# Altium schematic symbol library Display_Character.SchLib: 128 symbols (part 1 of 2)
Pins are listed as number, name and electrical type; pins without a type are passive.

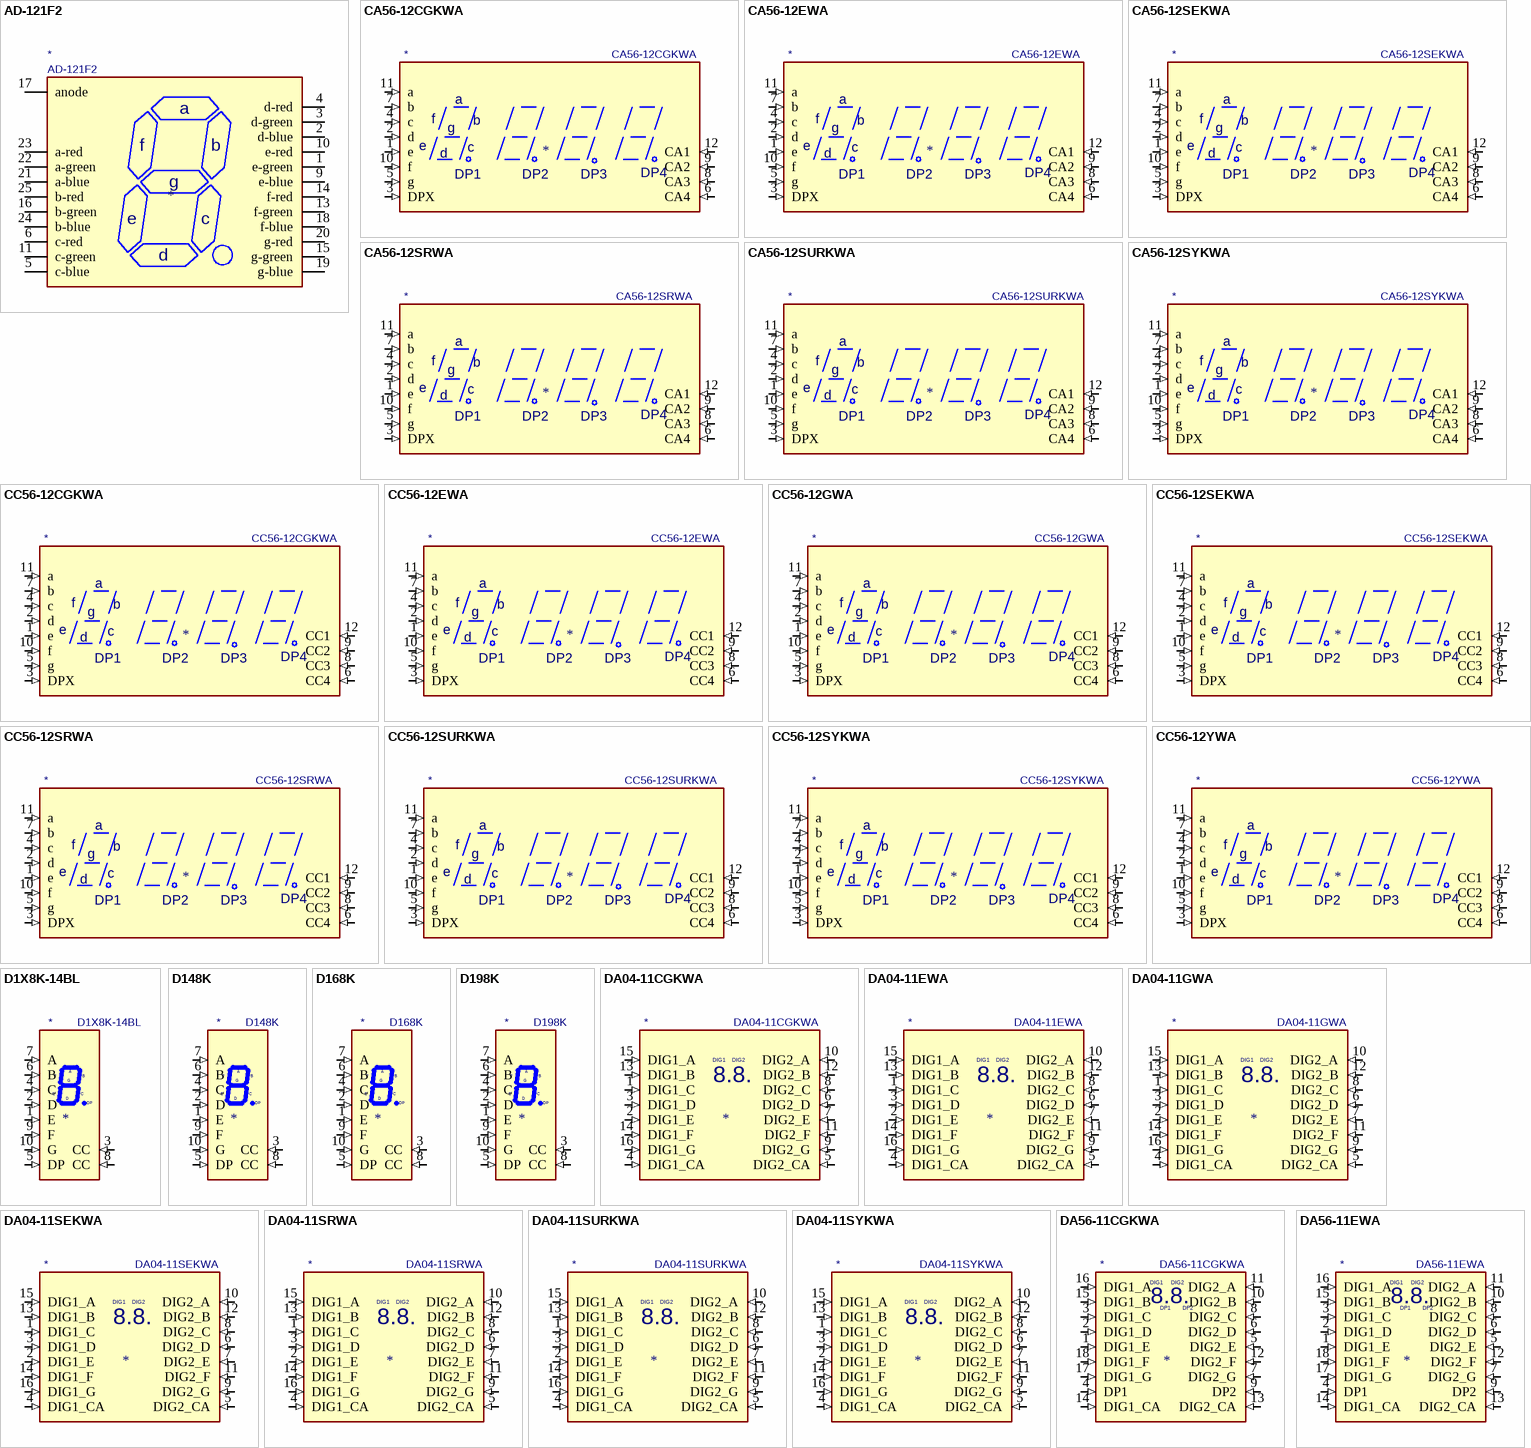
[diagram p0: symbols AD-121F2 to DA56-11EWA]

## AD-121F2
designator *  value AD-121F2
ki_keywords: display RGB LED digit 7-segment; ki_description: Single Digit 7-segment RGB LED Display, 1-inch digit height, common anode; ki_fp_filters: AD*121F2*; Footprint: Display_7Segment:AD-121F2; Supplier: http://usasyck.com/products/AD-121F2_cat_e.pdf
footprint AD-121F2
pins: 1 e-green, 2 d-blue, 3 d-green, 4 d-red, 5 c-blue, 6 c-red, 9 e-blue, 10 e-red, 11 c-green, 13 f-green, 14 f-red, 15 g-green, 16 b-green, 17 anode, 18 f-blue, 19 g-blue, 20 g-red, 21 a-blue, 22 a-green, 23 a-red, 24 b-blue, 25 b-red
text: a; f; b; g; e; c; d

## CA56-12CGKWA
designator *  value CA56-12CGKWA
ki_keywords: display LED; ki_description: 4 digit 7 segment Green LED, common anode; ki_fp_filters: *CA56*12CGKWA*; Footprint: Display_7Segment:CA56-12CGKWA; Supplier: http://www.kingbright.com/attachments/file/psearch/000/00/00/CA56-12CGKWA(Ver.9A).pdf
footprint CA56-12CGKWA
pins: 1 e (in), 2 d (in), 3 DPX (in), 4 c (in), 5 g (in), 6 CA4 (in), 7 b (in), 8 CA3 (in), 9 CA2 (in), 10 f (in), 11 a (in), 12 CA1 (in)
text: DP1; DP2; DP3; DP4

## CA56-12EWA
designator *  value CA56-12EWA
ki_keywords: display LED 7-segment; ki_description: 4 digit 7 segment high efficiency red LED, common anode; ki_fp_filters: *CA56*12EWA*; Footprint: Display_7Segment:CA56-12EWA; Supplier: http://www.kingbrightusa.com/images/catalog/SPEC/CA56-12EWA.pdf
footprint CA56-12EWA
pins: 1 e (in), 2 d (in), 3 DPX (in), 4 c (in), 5 g (in), 6 CA4 (in), 7 b (in), 8 CA3 (in), 9 CA2 (in), 10 f (in), 11 a (in), 12 CA1 (in)
text: DP1; DP2; DP3; DP4

## CA56-12SEKWA
designator *  value CA56-12SEKWA
ki_keywords: display LED 7-segment; ki_description: 4 digit 7 segment super bright orange LED, common anode; ki_fp_filters: *CA56*12SEKWA*; Footprint: Display_7Segment:CA56-12SEKWA; Supplier: http://www.kingbright.com/attachments/file/psearch/000/00/00/CA56-12SEKWA(Ver.7A).pdf
footprint CA56-12SEKWA
pins: 1 e (in), 2 d (in), 3 DPX (in), 4 c (in), 5 g (in), 6 CA4 (in), 7 b (in), 8 CA3 (in), 9 CA2 (in), 10 f (in), 11 a (in), 12 CA1 (in)
text: DP1; DP2; DP3; DP4

## CA56-12SRWA
designator *  value CA56-12SRWA
ki_keywords: display LED 7-segment; ki_description: 4 digit 7 segment super bright red LED, common anode; ki_fp_filters: *CA56*12SRWA*; Footprint: Display_7Segment:CA56-12SRWA; Supplier: http://www.kingbrightusa.com/images/catalog/SPEC/CA56-12SRWA.pdf
footprint CA56-12SRWA
pins: 1 e (in), 2 d (in), 3 DPX (in), 4 c (in), 5 g (in), 6 CA4 (in), 7 b (in), 8 CA3 (in), 9 CA2 (in), 10 f (in), 11 a (in), 12 CA1 (in)
text: DP1; DP2; DP3; DP4

## CA56-12SURKWA
designator *  value CA56-12SURKWA
ki_keywords: display LED 7-segment; ki_description: 4 digit 7 segment hyper red LED, common anode; ki_fp_filters: *CA56*12SURKWA*; Footprint: Display_7Segment:CA56-12SURKWA; Supplier: http://www.kingbright.com/attachments/file/psearch/000/00/00/CA56-12SURKWA(Ver.8A).pdf
footprint CA56-12SURKWA
pins: 1 e (in), 2 d (in), 3 DPX (in), 4 c (in), 5 g (in), 6 CA4 (in), 7 b (in), 8 CA3 (in), 9 CA2 (in), 10 f (in), 11 a (in), 12 CA1 (in)
text: DP1; DP2; DP3; DP4

## CA56-12SYKWA
designator *  value CA56-12SYKWA
ki_keywords: display LED 7-segment; ki_description: 4 digit 7 segment super bright yellow LED, common anode; ki_fp_filters: *CA56*12SYKWA*; Footprint: Display_7Segment:CA56-12SYKWA; Supplier: http://www.kingbright.com/attachments/file/psearch/000/00/00/CA56-12SYKWA(Ver.6A).pdf
footprint CA56-12SYKWA
pins: 1 e (in), 2 d (in), 3 DPX (in), 4 c (in), 5 g (in), 6 CA4 (in), 7 b (in), 8 CA3 (in), 9 CA2 (in), 10 f (in), 11 a (in), 12 CA1 (in)
text: DP1; DP2; DP3; DP4

## CC56-12CGKWA
designator *  value CC56-12CGKWA
ki_keywords: display LED 7-segment; ki_description: 4 digit 7 segment green LED, common cathode; ki_fp_filters: *CA56*12CGKWA*; Footprint: Display_7Segment:CA56-12CGKWA; Supplier: http://www.kingbright.com/attachments/file/psearch/000/00/00/CC56-12CGKWA(Ver.8A).pdf
footprint CA56-12CGKWA
pins: 1 e (in), 2 d (in), 3 DPX (in), 4 c (in), 5 g (in), 6 CC4 (in), 7 b (in), 8 CC3 (in), 9 CC2 (in), 10 f (in), 11 a (in), 12 CC1 (in)
text: DP1; DP2; DP3; DP4

## CC56-12EWA
designator *  value CC56-12EWA
ki_keywords: display LED 7-segment; ki_description: 4 digit 7 segment high efficiency red LED, common cathode; ki_fp_filters: *CA56*12EWA*; Footprint: Display_7Segment:CA56-12EWA; Supplier: http://www.kingbrightusa.com/images/catalog/SPEC/CA56-12EWA.pdf
footprint CA56-12EWA
pins: 1 e (in), 2 d (in), 3 DPX (in), 4 c (in), 5 g (in), 6 CC4 (in), 7 b (in), 8 CC3 (in), 9 CC2 (in), 10 f (in), 11 a (in), 12 CC1 (in)
text: DP1; DP2; DP3; DP4

## CC56-12GWA
designator *  value CC56-12GWA
ki_keywords: display LED 7-segment; ki_description: 4 digit 7 segment green LED, common cathode; ki_fp_filters: CC56?12GWA*; Footprint: Display_7Segment:CC56-12GWA; Supplier: http://www.kingbrightusa.com/images/catalog/SPEC/CC56-12GWA.pdf
footprint CC56-12GWA
pins: 1 e (in), 2 d (in), 3 DPX (in), 4 c (in), 5 g (in), 6 CC4 (in), 7 b (in), 8 CC3 (in), 9 CC2 (in), 10 f (in), 11 a (in), 12 CC1 (in)
text: DP1; DP2; DP3; DP4

## CC56-12SEKWA
designator *  value CC56-12SEKWA
ki_keywords: display LED 7-segment; ki_description: 4 digit 7 segment super bright orange LED, common cathode; ki_fp_filters: *CA56*12SEKWA*; Footprint: Display_7Segment:CA56-12SEKWA; Supplier: http://www.kingbright.com/attachments/file/psearch/000/00/00/CC56-12SEKWA(Ver.7A).pdf
footprint CA56-12SEKWA
pins: 1 e (in), 2 d (in), 3 DPX (in), 4 c (in), 5 g (in), 6 CC4 (in), 7 b (in), 8 CC3 (in), 9 CC2 (in), 10 f (in), 11 a (in), 12 CC1 (in)
text: DP1; DP2; DP3; DP4

## CC56-12SRWA
designator *  value CC56-12SRWA
ki_keywords: display LED 7-segment; ki_description: 4 digit 7 segment super bright red LED, common cathode; ki_fp_filters: *CA56*12SRWA*; Footprint: Display_7Segment:CA56-12SRWA; Supplier: http://www.kingbrightusa.com/images/catalog/SPEC/CC56-12SRWA.pdf
footprint CA56-12SRWA
pins: 1 e (in), 2 d (in), 3 DPX (in), 4 c (in), 5 g (in), 6 CC4 (in), 7 b (in), 8 CC3 (in), 9 CC2 (in), 10 f (in), 11 a (in), 12 CC1 (in)
text: DP1; DP2; DP3; DP4

## CC56-12SURKWA
designator *  value CC56-12SURKWA
ki_keywords: display LED 7-segment; ki_description: 4 digit 7 segment hyper red LED, common cathode; ki_fp_filters: *CA56*12SURKWA*; Footprint: Display_7Segment:CA56-12SURKWA; Supplier: http://www.kingbright.com/attachments/file/psearch/000/00/00/CC56-12SURKWA(Ver.7A).pdf
footprint CA56-12SURKWA
pins: 1 e (in), 2 d (in), 3 DPX (in), 4 c (in), 5 g (in), 6 CC4 (in), 7 b (in), 8 CC3 (in), 9 CC2 (in), 10 f (in), 11 a (in), 12 CC1 (in)
text: DP1; DP2; DP3; DP4

## CC56-12SYKWA
designator *  value CC56-12SYKWA
ki_keywords: display LED 7-segment; ki_description: 4 digit 7 segment super bright yellow LED, common cathode; ki_fp_filters: *CA56*12SYKWA*; Footprint: Display_7Segment:CA56-12SYKWA; Supplier: http://www.kingbright.com/attachments/file/psearch/000/00/00/CC56-12SYKWA(Ver.6A).pdf
footprint CA56-12SYKWA
pins: 1 e (in), 2 d (in), 3 DPX (in), 4 c (in), 5 g (in), 6 CC4 (in), 7 b (in), 8 CC3 (in), 9 CC2 (in), 10 f (in), 11 a (in), 12 CC1 (in)
text: DP1; DP2; DP3; DP4

## CC56-12YWA
designator *  value CC56-12YWA
ki_keywords: display LED 7-segment; ki_description: 4 digit 7 segment  yellow LED, common cathode; ki_fp_filters: CC56?12YWA*; Footprint: Display_7Segment:CC56-12YWA; Supplier: http://www.kingbrightusa.com/images/catalog/SPEC/CC56-12YWA.pdf
footprint CC56-12YWA
pins: 1 e (in), 2 d (in), 3 DPX (in), 4 c (in), 5 g (in), 6 CC4 (in), 7 b (in), 8 CC3 (in), 9 CC2 (in), 10 f (in), 11 a (in), 12 CC1 (in)
text: DP1; DP2; DP3; DP4

## D1X8K-14BL
designator *  value D1X8K-14BL
ki_keywords: display LED 7-segment; ki_description: One digit 7 segment ultra bright blue LED, low current, common cathode; ki_fp_filters: D1X8K*; Footprint: Display_7Segment:D1X8K; Supplier: https://ia800903.us.archive.org/24/items/CTKD1x8K/Cromatek%20D168K.pdf
footprint D1X8K
pins: 1 E (in), 2 D (in), 3 CC (in), 4 C (in), 5 DP (in), 6 B (in), 7 A (in), 8 CC (in), 9 F (in), 10 G (in)

## D148K
designator *  value D148K
ki_keywords: display LED 7-segment; ki_description: One digit 7 segment yellowish-green LED, low current, common cathode; ki_fp_filters: D1X8K*; Footprint: Display_7Segment:D1X8K; Supplier: https://ia800903.us.archive.org/24/items/CTKD1x8K/Cromatek%20D168K.pdf
footprint D1X8K
pins: 1 E (in), 2 D (in), 3 CC (in), 4 C (in), 5 DP (in), 6 B (in), 7 A (in), 8 CC (in), 9 F (in), 10 G (in)

## D168K
designator *  value D168K
ki_keywords: display LED 7-segment; ki_description: One digit 7 segment ultra bright red LED, low current, common cathode; ki_fp_filters: D1X8K*; Footprint: Display_7Segment:D1X8K; Supplier: https://ia800903.us.archive.org/24/items/CTKD1x8K/Cromatek%20D168K.pdf
footprint D1X8K
pins: 1 E (in), 2 D (in), 3 CC (in), 4 C (in), 5 DP (in), 6 B (in), 7 A (in), 8 CC (in), 9 F (in), 10 G (in)

## D198K
designator *  value D198K
ki_keywords: display LED 7-segment; ki_description: One digit 7 segment orangish-red LED, low current, common cathode; ki_fp_filters: D1X8K*; Footprint: Display_7Segment:D1X8K; Supplier: https://ia800903.us.archive.org/24/items/CTKD1x8K/Cromatek%20D168K.pdf
footprint D1X8K
pins: 1 E (in), 2 D (in), 3 CC (in), 4 C (in), 5 DP (in), 6 B (in), 7 A (in), 8 CC (in), 9 F (in), 10 G (in)

## DA04-11CGKWA
designator *  value DA04-11CGKWA
ki_keywords: display LED 7-segment; ki_description: Double 7 segment green LED common anode; ki_fp_filters: *DA04*11*; Footprint: Display_7Segment:DA04-11CGKWA; Supplier: http://www.kingbright.com/attachments/file/psearch/000/00/00/DA04-11CGKWA(Ver.6A).pdf
footprint DA04-11CGKWA
pins: 1 DIG1_C (in), 2 DIG1_E (in), 3 DIG1_D (in), 4 DIG1_CA (in), 5 DIG2_CA (in), 6 DIG2_D (in), 7 DIG2_E (in), 8 DIG2_C (in), 9 DIG2_G (in), 10 DIG2_A (in), 11 DIG2_F (in), 12 DIG2_B (in), 13 DIG1_B (in), 14 DIG1_F (in), 15 DIG1_A (in), 16 DIG1_G (in)
text: DIG1; DIG2; 8.8.

## DA04-11EWA
designator *  value DA04-11EWA
ki_keywords: display LED 7-segment; ki_description: Double 7 segment high efficient red LED common anode; ki_fp_filters: *DA04*11*; Footprint: Display_7Segment:DA04-11SURKWA; Supplier: http://www.kingbrightusa.com/images/catalog/SPEC/DA04-11EWA.pdf
footprint DA04-11SURKWA
pins: 1 DIG1_C (in), 2 DIG1_E (in), 3 DIG1_D (in), 4 DIG1_CA (in), 5 DIG2_CA (in), 6 DIG2_D (in), 7 DIG2_E (in), 8 DIG2_C (in), 9 DIG2_G (in), 10 DIG2_A (in), 11 DIG2_F (in), 12 DIG2_B (in), 13 DIG1_B (in), 14 DIG1_F (in), 15 DIG1_A (in), 16 DIG1_G (in)
text: DIG1; DIG2; 8.8.

## DA04-11GWA
designator *  value DA04-11GWA
ki_keywords: display LED 7-segment; ki_description: Double 7 segment green LED common anode; ki_fp_filters: *DA04*11*; Footprint: Display_7Segment:DA04-11CGKWA; Supplier: http://www.kingbrightusa.com/images/catalog/SPEC/DA04-11GWA.pdf
footprint DA04-11CGKWA
pins: 1 DIG1_C (in), 2 DIG1_E (in), 3 DIG1_D (in), 4 DIG1_CA (in), 5 DIG2_CA (in), 6 DIG2_D (in), 7 DIG2_E (in), 8 DIG2_C (in), 9 DIG2_G (in), 10 DIG2_A (in), 11 DIG2_F (in), 12 DIG2_B (in), 13 DIG1_B (in), 14 DIG1_F (in), 15 DIG1_A (in), 16 DIG1_G (in)
text: DIG1; DIG2; 8.8.

## DA04-11SEKWA
designator *  value DA04-11SEKWA
ki_keywords: display LED 7-segment; ki_description: Double 7 segment super bright orange LED common anode; ki_fp_filters: *DA04*11*; Footprint: Display_7Segment:DA04-11SEKWA; Supplier: http://www.kingbright.com/attachments/file/psearch/000/00/00/DA04-11SEKWA(Ver.9A).pdf
footprint DA04-11SEKWA
pins: 1 DIG1_C (in), 2 DIG1_E (in), 3 DIG1_D (in), 4 DIG1_CA (in), 5 DIG2_CA (in), 6 DIG2_D (in), 7 DIG2_E (in), 8 DIG2_C (in), 9 DIG2_G (in), 10 DIG2_A (in), 11 DIG2_F (in), 12 DIG2_B (in), 13 DIG1_B (in), 14 DIG1_F (in), 15 DIG1_A (in), 16 DIG1_G (in)
text: DIG1; DIG2; 8.8.

## DA04-11SRWA
designator *  value DA04-11SRWA
ki_keywords: display LED 7-segment; ki_description: Double 7 segment super bright red LED common anode; ki_fp_filters: *DA04*11*; Footprint: Display_7Segment:DA04-11SURKWA; Supplier: http://www.kingbrightusa.com/images/catalog/SPEC/DA04-11SRWA.pdf
footprint DA04-11SURKWA
pins: 1 DIG1_C (in), 2 DIG1_E (in), 3 DIG1_D (in), 4 DIG1_CA (in), 5 DIG2_CA (in), 6 DIG2_D (in), 7 DIG2_E (in), 8 DIG2_C (in), 9 DIG2_G (in), 10 DIG2_A (in), 11 DIG2_F (in), 12 DIG2_B (in), 13 DIG1_B (in), 14 DIG1_F (in), 15 DIG1_A (in), 16 DIG1_G (in)
text: DIG1; DIG2; 8.8.

## DA04-11SURKWA
designator *  value DA04-11SURKWA
ki_keywords: display LED 7-segment; ki_description: Double 7 segment hyper red LED common anode; ki_fp_filters: *DA04*11*; Footprint: Display_7Segment:DA04-11SURKWA; Supplier: http://www.kingbright.com/attachments/file/psearch/000/00/00/DA04-11SURKWA(Ver.10A).pdf
footprint DA04-11SURKWA
pins: 1 DIG1_C (in), 2 DIG1_E (in), 3 DIG1_D (in), 4 DIG1_CA (in), 5 DIG2_CA (in), 6 DIG2_D (in), 7 DIG2_E (in), 8 DIG2_C (in), 9 DIG2_G (in), 10 DIG2_A (in), 11 DIG2_F (in), 12 DIG2_B (in), 13 DIG1_B (in), 14 DIG1_F (in), 15 DIG1_A (in), 16 DIG1_G (in)
text: DIG1; DIG2; 8.8.

## DA04-11SYKWA
designator *  value DA04-11SYKWA
ki_keywords: display LED 7-segment; ki_description: Double 7 segment super bright yellow LED common anode; ki_fp_filters: *DA04*11*; Footprint: Display_7Segment:DA04-11SYKWA; Supplier: http://www.kingbright.com/attachments/file/psearch/000/00/00/DA04-11SYKWA(Ver.6A).pdf
footprint DA04-11SYKWA
pins: 1 DIG1_C (in), 2 DIG1_E (in), 3 DIG1_D (in), 4 DIG1_CA (in), 5 DIG2_CA (in), 6 DIG2_D (in), 7 DIG2_E (in), 8 DIG2_C (in), 9 DIG2_G (in), 10 DIG2_A (in), 11 DIG2_F (in), 12 DIG2_B (in), 13 DIG1_B (in), 14 DIG1_F (in), 15 DIG1_A (in), 16 DIG1_G (in)
text: DIG1; DIG2; 8.8.

## DA56-11CGKWA
designator *  value DA56-11CGKWA
ki_keywords: display LED 7-segment; ki_description: Double digit 7 segment green LED common anode; ki_fp_filters: *DA56*11*; Footprint: Display_7Segment:DA56-11CGKWA; Supplier: http://www.kingbright.com/attachments/file/psearch/000/00/00/DA56-11CGKWA(Ver.16A).pdf
footprint DA56-11CGKWA
pins: 1 DIG1_E (in), 2 DIG1_D (in), 3 DIG1_C (in), 4 DP1 (in), 5 DIG2_E (in), 6 DIG2_D (in), 7 DIG2_G (in), 8 DIG2_C (in), 9 DP2 (in), 10 DIG2_B (in), 11 DIG2_A (in), 12 DIG2_F (in), 13 DIG2_CA (in), 14 DIG1_CA (in), 15 DIG1_B (in), 16 DIG1_A (in), 17 DIG1_G (in), 18 DIG1_F (in)
text: DIG1; DIG2; 8.8.

## DA56-11EWA
designator *  value DA56-11EWA
ki_keywords: display LED 7-segment; ki_description: Double digit 7 segment high efficient red LED common anode; ki_fp_filters: *DA56*11*; Footprint: Display_7Segment:DA56-11SURKWA; Supplier: http://www.kingbrightusa.com/images/catalog/SPEC/DA56-11EWA.pdf
footprint DA56-11SURKWA
pins: 1 DIG1_E (in), 2 DIG1_D (in), 3 DIG1_C (in), 4 DP1 (in), 5 DIG2_E (in), 6 DIG2_D (in), 7 DIG2_G (in), 8 DIG2_C (in), 9 DP2 (in), 10 DIG2_B (in), 11 DIG2_A (in), 12 DIG2_F (in), 13 DIG2_CA (in), 14 DIG1_CA (in), 15 DIG1_B (in), 16 DIG1_A (in), 17 DIG1_G (in), 18 DIG1_F (in)
text: DIG1; DIG2; 8.8.

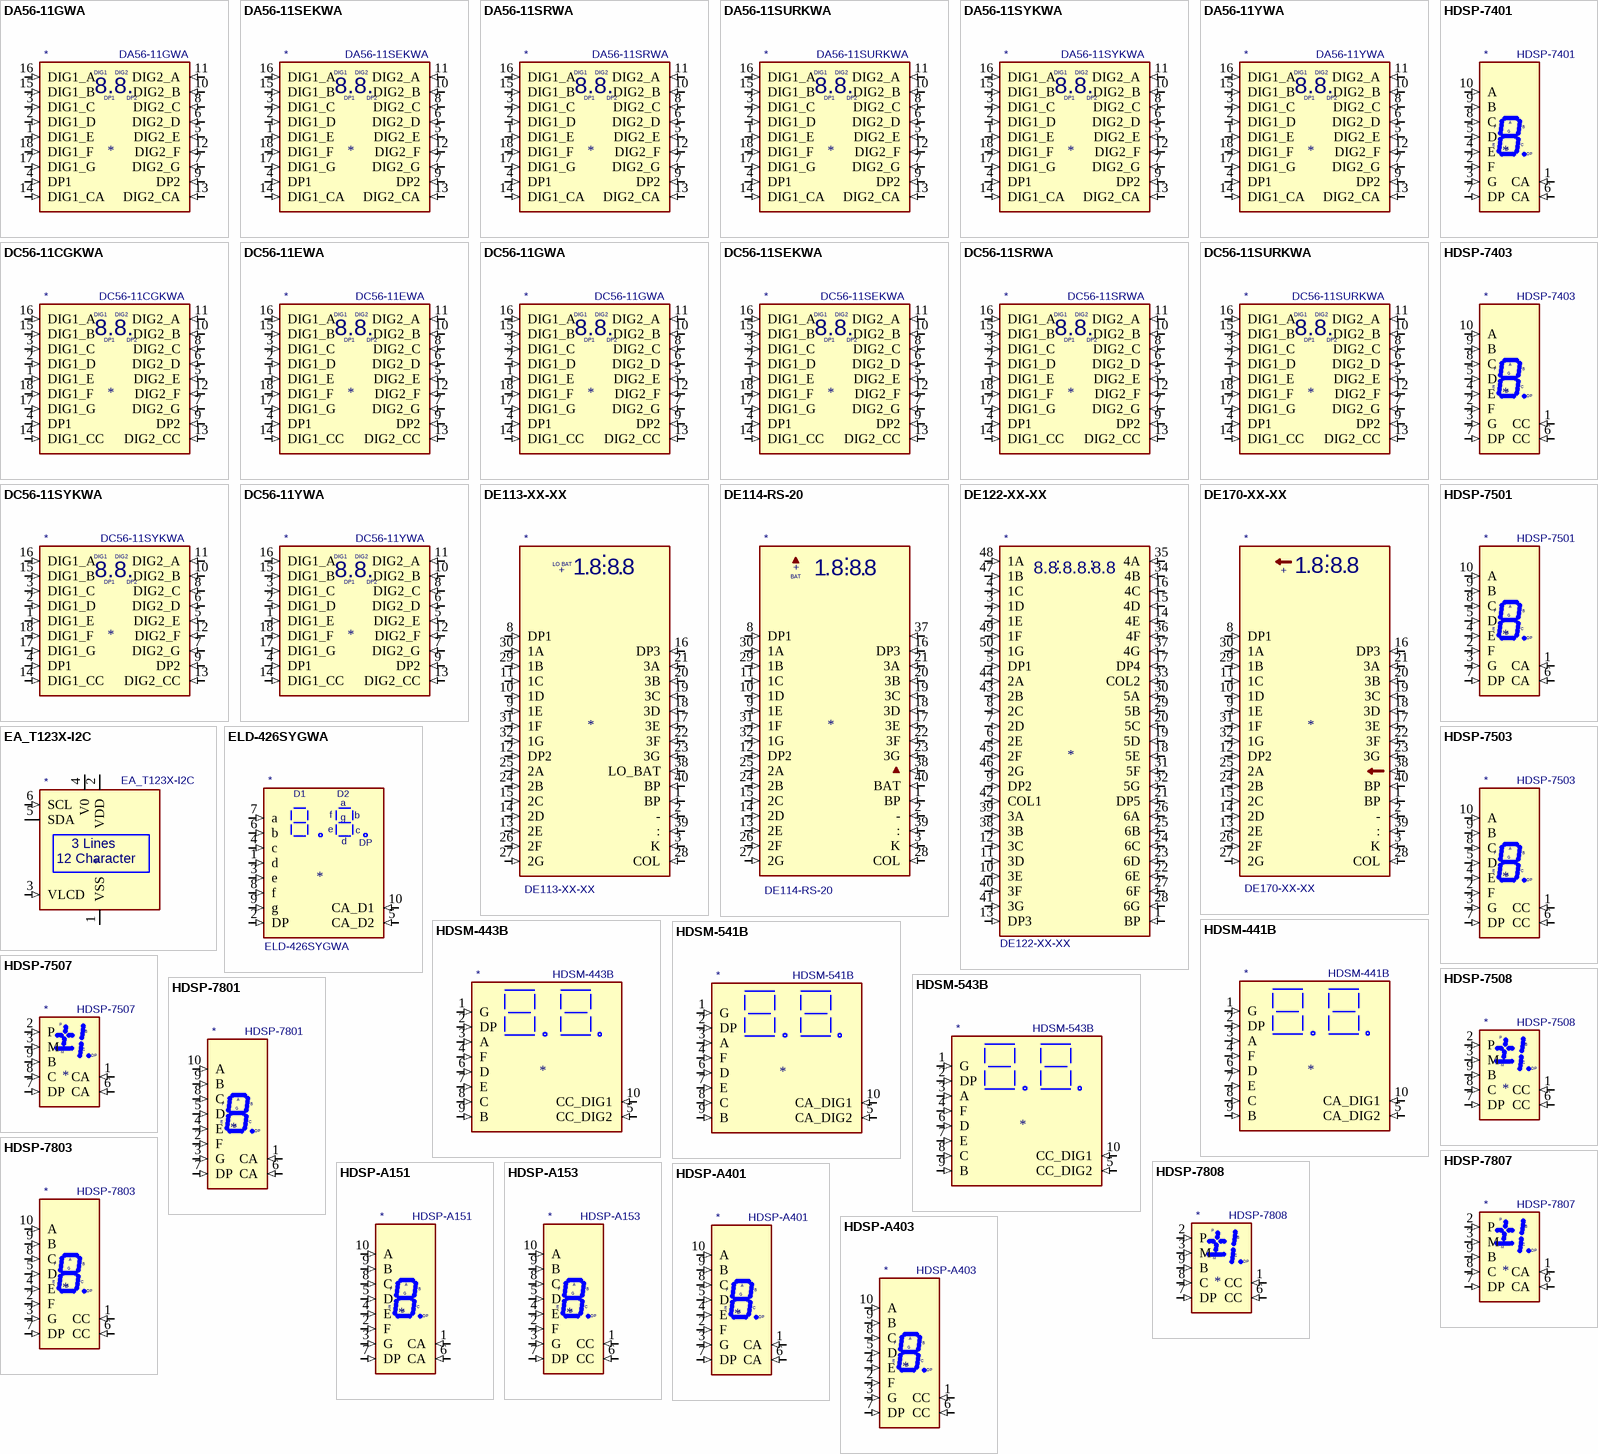
[diagram p1: symbols DA56-11GWA to HDSP-A403]

## DA56-11GWA
designator *  value DA56-11GWA
ki_keywords: display LED 7-segment; ki_description: Double digit 7 segment green LED common anode; ki_fp_filters: *DA56*11*; Footprint: Display_7Segment:DA56-11CGKWA; Supplier: http://www.kingbrightusa.com/images/catalog/SPEC/DA56-11GWA.pdf
footprint DA56-11CGKWA
pins: 1 DIG1_E (in), 2 DIG1_D (in), 3 DIG1_C (in), 4 DP1 (in), 5 DIG2_E (in), 6 DIG2_D (in), 7 DIG2_G (in), 8 DIG2_C (in), 9 DP2 (in), 10 DIG2_B (in), 11 DIG2_A (in), 12 DIG2_F (in), 13 DIG2_CA (in), 14 DIG1_CA (in), 15 DIG1_B (in), 16 DIG1_A (in), 17 DIG1_G (in), 18 DIG1_F (in)
text: DIG1; DIG2; 8.8.

## DA56-11SEKWA
designator *  value DA56-11SEKWA
ki_keywords: display LED 7-segment; ki_description: Double digit 7 segment super bright orange LED common anode; ki_fp_filters: *DA56*11*; Footprint: Display_7Segment:DA56-11SEKWA; Supplier: http://www.kingbright.com/attachments/file/psearch/000/00/00/DA56-11SEKWA(Ver.9A).pdf
footprint DA56-11SEKWA
pins: 1 DIG1_E (in), 2 DIG1_D (in), 3 DIG1_C (in), 4 DP1 (in), 5 DIG2_E (in), 6 DIG2_D (in), 7 DIG2_G (in), 8 DIG2_C (in), 9 DP2 (in), 10 DIG2_B (in), 11 DIG2_A (in), 12 DIG2_F (in), 13 DIG2_CA (in), 14 DIG1_CA (in), 15 DIG1_B (in), 16 DIG1_A (in), 17 DIG1_G (in), 18 DIG1_F (in)
text: DIG1; DIG2; 8.8.

## DA56-11SRWA
designator *  value DA56-11SRWA
ki_keywords: display LED 7-segment; ki_description: Double digit 7 segment super bright red LED common anode; ki_fp_filters: *DA56*11*; Footprint: Display_7Segment:DA56-11SURKWA; Supplier: http://www.kingbrightusa.com/images/catalog/SPEC/DA56-11SRWA.pdf
footprint DA56-11SURKWA
pins: 1 DIG1_E (in), 2 DIG1_D (in), 3 DIG1_C (in), 4 DP1 (in), 5 DIG2_E (in), 6 DIG2_D (in), 7 DIG2_G (in), 8 DIG2_C (in), 9 DP2 (in), 10 DIG2_B (in), 11 DIG2_A (in), 12 DIG2_F (in), 13 DIG2_CA (in), 14 DIG1_CA (in), 15 DIG1_B (in), 16 DIG1_A (in), 17 DIG1_G (in), 18 DIG1_F (in)
text: DIG1; DIG2; 8.8.

## DA56-11SURKWA
designator *  value DA56-11SURKWA
ki_keywords: display LED 7-segment; ki_description: Double digit 7 segment hyper red LED common anode; ki_fp_filters: *DA56*11*; Footprint: Display_7Segment:DA56-11SURKWA; Supplier: http://www.kingbright.com/attachments/file/psearch/000/00/00/DA56-11SURKWA(Ver.11A).pdf
footprint DA56-11SURKWA
pins: 1 DIG1_E (in), 2 DIG1_D (in), 3 DIG1_C (in), 4 DP1 (in), 5 DIG2_E (in), 6 DIG2_D (in), 7 DIG2_G (in), 8 DIG2_C (in), 9 DP2 (in), 10 DIG2_B (in), 11 DIG2_A (in), 12 DIG2_F (in), 13 DIG2_CA (in), 14 DIG1_CA (in), 15 DIG1_B (in), 16 DIG1_A (in), 17 DIG1_G (in), 18 DIG1_F (in)
text: DIG1; DIG2; 8.8.

## DA56-11SYKWA
designator *  value DA56-11SYKWA
ki_keywords: display LED 7-segment; ki_description: Double digit 7 segment super bright yellow LED common anode; ki_fp_filters: *DA56*11*; Footprint: Display_7Segment:DA56-11SYKWA; Supplier: http://www.kingbright.com/attachments/file/psearch/000/00/00/DA56-11SYKWA(Ver.11A).pdf
footprint DA56-11SYKWA
pins: 1 DIG1_E (in), 2 DIG1_D (in), 3 DIG1_C (in), 4 DP1 (in), 5 DIG2_E (in), 6 DIG2_D (in), 7 DIG2_G (in), 8 DIG2_C (in), 9 DP2 (in), 10 DIG2_B (in), 11 DIG2_A (in), 12 DIG2_F (in), 13 DIG2_CA (in), 14 DIG1_CA (in), 15 DIG1_B (in), 16 DIG1_A (in), 17 DIG1_G (in), 18 DIG1_F (in)
text: DIG1; DIG2; 8.8.

## DA56-11YWA
designator *  value DA56-11YWA
ki_keywords: display LED 7-segment; ki_description: Double digit 7 segment super bright yellow LED common anode; ki_fp_filters: *DA56*11*; Footprint: Display_7Segment:DA56-11SYKWA; Supplier: http://www.kingbrightusa.com/images/catalog/SPEC/DA56-11YWA.pdf
footprint DA56-11SYKWA
pins: 1 DIG1_E (in), 2 DIG1_D (in), 3 DIG1_C (in), 4 DP1 (in), 5 DIG2_E (in), 6 DIG2_D (in), 7 DIG2_G (in), 8 DIG2_C (in), 9 DP2 (in), 10 DIG2_B (in), 11 DIG2_A (in), 12 DIG2_F (in), 13 DIG2_CA (in), 14 DIG1_CA (in), 15 DIG1_B (in), 16 DIG1_A (in), 17 DIG1_G (in), 18 DIG1_F (in)
text: DIG1; DIG2; 8.8.

## DC56-11CGKWA
designator *  value DC56-11CGKWA
ki_keywords: display LED 7-segment; ki_description: Double digit 7 segment green LED common cathode; ki_fp_filters: *DA56*11*; Footprint: Display_7Segment:DA56-11CGKWA; Supplier: http://www.kingbright.com/attachments/file/psearch/000/00/00/DC56-11CGKWA(Ver.7A).pdf
footprint DA56-11CGKWA
pins: 1 DIG1_E (in), 2 DIG1_D (in), 3 DIG1_C (in), 4 DP1 (in), 5 DIG2_E (in), 6 DIG2_D (in), 7 DIG2_G (in), 8 DIG2_C (in), 9 DP2 (in), 10 DIG2_B (in), 11 DIG2_A (in), 12 DIG2_F (in), 13 DIG2_CC (in), 14 DIG1_CC (in), 15 DIG1_B (in), 16 DIG1_A (in), 17 DIG1_G (in), 18 DIG1_F (in)
text: DIG1; DIG2; 8.8.

## DC56-11EWA
designator *  value DC56-11EWA
ki_keywords: display LED 7-segment; ki_description: Double digit 7 segment super bright red LED common cathode; ki_fp_filters: *DA56*11*; Footprint: Display_7Segment:DA56-11SURKWA; Supplier: http://www.kingbrightusa.com/images/catalog/SPEC/DC56-11EWA.pdf
footprint DA56-11SURKWA
pins: 1 DIG1_E (in), 2 DIG1_D (in), 3 DIG1_C (in), 4 DP1 (in), 5 DIG2_E (in), 6 DIG2_D (in), 7 DIG2_G (in), 8 DIG2_C (in), 9 DP2 (in), 10 DIG2_B (in), 11 DIG2_A (in), 12 DIG2_F (in), 13 DIG2_CC (in), 14 DIG1_CC (in), 15 DIG1_B (in), 16 DIG1_A (in), 17 DIG1_G (in), 18 DIG1_F (in)
text: DIG1; DIG2; 8.8.

## DC56-11GWA
designator *  value DC56-11GWA
ki_keywords: display LED 7-segment; ki_description: Double digit 7 segment green LED common cathode; ki_fp_filters: *DA56*11*; Footprint: Display_7Segment:DA56-11CGKWA; Supplier: http://www.kingbrightusa.com/images/catalog/SPEC/DC56-11GWA.pdf
footprint DA56-11CGKWA
pins: 1 DIG1_E (in), 2 DIG1_D (in), 3 DIG1_C (in), 4 DP1 (in), 5 DIG2_E (in), 6 DIG2_D (in), 7 DIG2_G (in), 8 DIG2_C (in), 9 DP2 (in), 10 DIG2_B (in), 11 DIG2_A (in), 12 DIG2_F (in), 13 DIG2_CC (in), 14 DIG1_CC (in), 15 DIG1_B (in), 16 DIG1_A (in), 17 DIG1_G (in), 18 DIG1_F (in)
text: DIG1; DIG2; 8.8.

## DC56-11SEKWA
designator *  value DC56-11SEKWA
ki_keywords: display LED 7-segment; ki_description: Double digit 7 segment super bright orange LED common cathode; ki_fp_filters: *DA56*11*; Footprint: Display_7Segment:DA56-11SEKWA; Supplier: http://www.kingbright.com/attachments/file/psearch/000/00/00/DA56-11SEKWA(Ver.9A).pdf
footprint DA56-11SEKWA
pins: 1 DIG1_E (in), 2 DIG1_D (in), 3 DIG1_C (in), 4 DP1 (in), 5 DIG2_E (in), 6 DIG2_D (in), 7 DIG2_G (in), 8 DIG2_C (in), 9 DP2 (in), 10 DIG2_B (in), 11 DIG2_A (in), 12 DIG2_F (in), 13 DIG2_CC (in), 14 DIG1_CC (in), 15 DIG1_B (in), 16 DIG1_A (in), 17 DIG1_G (in), 18 DIG1_F (in)
text: DIG1; DIG2; 8.8.

## DC56-11SRWA
designator *  value DC56-11SRWA
ki_keywords: display LED 7-segment; ki_description: Double digit 7 segment super bright red LED common cathode; ki_fp_filters: *DA56*11*; Footprint: Display_7Segment:DA56-11SURKWA; Supplier: http://www.kingbrightusa.com/images/catalog/SPEC/DC56-11SRWA.pdf
footprint DA56-11SURKWA
pins: 1 DIG1_E (in), 2 DIG1_D (in), 3 DIG1_C (in), 4 DP1 (in), 5 DIG2_E (in), 6 DIG2_D (in), 7 DIG2_G (in), 8 DIG2_C (in), 9 DP2 (in), 10 DIG2_B (in), 11 DIG2_A (in), 12 DIG2_F (in), 13 DIG2_CC (in), 14 DIG1_CC (in), 15 DIG1_B (in), 16 DIG1_A (in), 17 DIG1_G (in), 18 DIG1_F (in)
text: DIG1; DIG2; 8.8.

## DC56-11SURKWA
designator *  value DC56-11SURKWA
ki_keywords: display LED 7-segment; ki_description: Double digit 7 segment hyper red LED common cathode; ki_fp_filters: *DA56*11*; Footprint: Display_7Segment:DA56-11SURKWA; Supplier: http://www.kingbright.com/attachments/file/psearch/000/00/00/DC56-11SURKWA(Ver.8A).pdf
footprint DA56-11SURKWA
pins: 1 DIG1_E (in), 2 DIG1_D (in), 3 DIG1_C (in), 4 DP1 (in), 5 DIG2_E (in), 6 DIG2_D (in), 7 DIG2_G (in), 8 DIG2_C (in), 9 DP2 (in), 10 DIG2_B (in), 11 DIG2_A (in), 12 DIG2_F (in), 13 DIG2_CC (in), 14 DIG1_CC (in), 15 DIG1_B (in), 16 DIG1_A (in), 17 DIG1_G (in), 18 DIG1_F (in)
text: DIG1; DIG2; 8.8.

## DC56-11SYKWA
designator *  value DC56-11SYKWA
ki_keywords: display LED 7-segment; ki_description: Double digit 7 segment super bright yellow LED common cathode; ki_fp_filters: *DA56*11*; Footprint: Display_7Segment:DA56-11SYKWA; Supplier: http://www.kingbright.com/attachments/file/psearch/000/00/00/DC56-11SYKWA(Ver.7A).pdf
footprint DA56-11SYKWA
pins: 1 DIG1_E (in), 2 DIG1_D (in), 3 DIG1_C (in), 4 DP1 (in), 5 DIG2_E (in), 6 DIG2_D (in), 7 DIG2_G (in), 8 DIG2_C (in), 9 DP2 (in), 10 DIG2_B (in), 11 DIG2_A (in), 12 DIG2_F (in), 13 DIG2_CC (in), 14 DIG1_CC (in), 15 DIG1_B (in), 16 DIG1_A (in), 17 DIG1_G (in), 18 DIG1_F (in)
text: DIG1; DIG2; 8.8.

## DC56-11YWA
designator *  value DC56-11YWA
ki_keywords: display LED 7-segment; ki_description: Double digit 7 segment yellow LED common cathode; ki_fp_filters: *DA56*11*; Footprint: Display_7Segment:DA56-11SYKWA; Supplier: http://www.kingbrightusa.com/images/catalog/SPEC/DC56-11YWA.pdf
footprint DA56-11SYKWA
pins: 1 DIG1_E (in), 2 DIG1_D (in), 3 DIG1_C (in), 4 DP1 (in), 5 DIG2_E (in), 6 DIG2_D (in), 7 DIG2_G (in), 8 DIG2_C (in), 9 DP2 (in), 10 DIG2_B (in), 11 DIG2_A (in), 12 DIG2_F (in), 13 DIG2_CC (in), 14 DIG1_CC (in), 15 DIG1_B (in), 16 DIG1_A (in), 17 DIG1_G (in), 18 DIG1_F (in)
text: DIG1; DIG2; 8.8.

## DE113-XX-XX
designator *  value DE113-XX-XX
ki_keywords: display LCD 7-segment; ki_description: 3 and half digit 7 segment transmissive standard LCD with LO BAT, pin length 7.5mm, -20°C to +70°C, 3V-5V VDD; ki_fp_filters: *DE*113*; Footprint: Display_7Segment:DE113-XX-XX; Supplier: http://www.display-elektronik.de/filter/DE113-MS-20_75.pdf
footprint DE113-XX-XX
pins: 1 BP (in), 2 - (in), 3 K (in), 4 NC (in) hidden, 5 NC (in) hidden, 6 NC (in) hidden, 7 NC (in) hidden, 8 DP1 (in), 9 1E (in), 10 1D (in), 11 1C (in), 12 DP2 (in), 13 2E (in), 14 2D (in), 15 2C (in), 16 DP3 (in), 17 3E (in), 18 3D (in), 19 3C (in), 20 3B (in), 21 3A (in), 22 3F (in), 23 3G (in), 24 2B (in), 25 2A (in), 26 2F (in), 27 2G (in), 28 COL (in), 29 1B (in), 30 1A (in), 31 1F (in), 32 1G (in), 33 NC (in) hidden, 34 NC (in) hidden, 35 NC (in) hidden, 36 NC (in) hidden, 37 NC (in) hidden, 38 LO_BAT (in), 39 : (in), 40 BP (in)
text: LO BAT; +; .

## DE114-RS-20
designator *  value DE114-RS-20
ki_keywords: display LCD 7-segment; ki_description: 3 and half digit 7 segment reflective standard LCD with ~~ and BAT, pin length 6.35mm, -20°C to +70°C, 3V-5V VDD; ki_fp_filters: *DE*114*RS*20*; Footprint: Display_7Segment:DE114-RS-20; Supplier: http://www.display-elektronik.de/filter/DE114-RS-20_635.pdf
footprint DE114-RS-20
pins: 1 BP (in), 2 - (in), 3 K (in), 4 NC (in) hidden, 5 NC (in) hidden, 6 NC (in) hidden, 7 NC (in) hidden, 8 DP1 (in), 9 1E (in), 10 1D (in), 11 1C (in), 12 DP2 (in), 13 2E (in), 14 2D (in), 15 2C (in), 16 DP3 (in), 17 3E (in), 18 3D (in), 19 3C (in), 20 3B (in), 21 3A (in), 22 3F (in), 23 3G (in), 24 2B (in), 25 2A (in), 26 2F (in), 27 2G (in), 28 COL (in), 29 1B (in), 30 1A (in), 31 1F (in), 32 1G (in), 33 NC (in) hidden, 34 NC (in) hidden, 35 NC (in) hidden, 36 NC (in) hidden, 37 (in), 38 (in), 39 : (in), 40 BAT (in)
text: +; .

## DE122-XX-XX
designator *  value DE122-XX-XX
ki_keywords: display LCD 7-segment; ki_description: 6 digit 7 segment reflective standard LCD, pin length 6.35mm, -20°C to +70°C, 3V-5V VDD; ki_fp_filters: DE122?XX?XX*; Footprint: Display_7Segment:DE122-XX-XX; Supplier: http://www.display-elektronik.de/filter/DE122-RS-20_635.pdf
footprint DE122-XX-XX
pins: 1 BP (in), 2 1E (in), 3 1D (in), 4 1C (in), 5 DP1 (in), 6 2E (in), 7 2D (in), 8 2C (in), 9 DP2 (in), 10 3E (in), 11 3D (in), 12 3C (in), 13 DP3 (in), 14 4E (in), 15 4D (in), 16 4C (in), 17 DP4 (in), 18 5E (in), 19 5D (in), 20 5C (in), 21 DP5 (in), 22 6E (in), 23 6D (in), 24 6C (in), 25 6B (in), 26 6A (in), 27 6F (in), 28 6G (in), 29 5B (in), 30 5A (in), 31 5F (in), 32 5G (in), 33 COL2 (in), 34 4B (in), 35 4A (in), 36 4F (in), 37 4G (in), 38 3B (in), 39 3A (in), 40 3F (in), 41 3G (in), 42 COL1 (in), 43 2B (in), 44 2A (in), 45 2F (in), 46 2G (in), 47 1B (in), 48 1A (in), 49 1F (in), 50 1G (in)
text: :; 8.8.8.8.8.8

## DE170-XX-XX
designator *  value DE170-XX-XX
ki_keywords: display LCD 7-segment; ki_description: 3 and half digit 7 segment reflective standard LCD with arrow, pin length 7.5mm, -20°C to +70°C, 3V-5V VDD; ki_fp_filters: DE170?XX?XX*; Footprint: Display_7Segment:DE170-XX-XX; Supplier: http://www.display-elektronik.de/filter/DE170-RS-20_75.pdf
footprint DE170-XX-XX
pins: 1 BP (in), 2 - (in), 3 K (in), 4 NC (in) hidden, 5 NC (in) hidden, 6 NC (in) hidden, 7 NC (in) hidden, 8 DP1 (in), 9 1E (in), 10 1D (in), 11 1C (in), 12 DP2 (in), 13 2E (in), 14 2D (in), 15 2C (in), 16 DP3 (in), 17 3E (in), 18 3D (in), 19 3C (in), 20 3B (in), 21 3A (in), 22 3F (in), 23 3G (in), 24 2B (in), 25 2A (in), 26 2F (in), 27 2G (in), 28 COL (in), 29 1B (in), 30 1A (in), 31 1F (in), 32 1G (in), 33 NC (in) hidden, 34 NC (in) hidden, 35 NC (in) hidden, 36 NC (in) hidden, 37 NC (in) hidden, 38 (in), 39 : (in), 40 BP (in)
text: +; .

## EA_T123X-I2C
designator *  value EA_T123X-I2C
ki_keywords: display LCD 7-segment; ki_description: 3 Lines, 12 character alpha numeric LCD, transreflective STN and FSTN Gray, I2C, single or dual power; ki_fp_filters: EA?T123X?I2C*; Footprint: Display:EA_T123X-I2C; Supplier: http://www.lcd-module.de/pdf/doma/t123-i2c.pdf
footprint EA_T123X-I2C
pins: 1 VSS (power), 2 VDD (power), 3 VLCD (in), 4 V0 (power), 5 SDA (io), 6 SCL (in)
text: 3 Lines; 12 Character

## ELD-426SYGWA
designator *  value ELD-426SYGWA
ki_keywords: display LED 7-segment; ki_description: Double 7 segment brilliant yellow green LED common anode; ki_fp_filters: *ELD*426*; Footprint: Display_7Segment:ELD_426XXXX; Supplier: http://www.everlight.com/file/ProductFile/D426SYGWA-S530-E2.pdf
footprint ELD_426XXXX
pins: 1 d (in), 2 DP (in), 3 e (in), 4 c (in), 5 CA_D2 (in), 6 b (in), 7 a (in), 8 f (in), 9 g (in), 10 CA_D1 (in)
text: D1; D2

## HDSM-441B
designator *  value HDSM-441B
ki_keywords: display LED 7-segment; ki_description: Double 7 segment Blue LED common anode SMD mount; ki_fp_filters: *HDSM*441B*; Footprint: Display:HDSM-441B_HDSM-443B; Supplier: https://docs.broadcom.com/docs/AV02-1589EN
footprint HDSM-441B_HDSM-443B
pins: 1 G (in), 2 DP (in), 3 A (in), 4 F (in), 5 CA_DIG2 (in), 6 D (in), 7 E (in), 8 C (in), 9 B (in), 10 CA_DIG1 (in)

## HDSM-443B
designator *  value HDSM-443B
ki_keywords: display LED 7-segment; ki_description: Double 7 segment Blue LED common cathode SMD mount; ki_fp_filters: *HDSM*441B*; Footprint: Display:HDSM-441B_HDSM-443B; Supplier: https://docs.broadcom.com/docs/AV02-1589EN
footprint HDSM-441B_HDSM-443B
pins: 1 G (in), 2 DP (in), 3 A (in), 4 F (in), 5 CC_DIG2 (in), 6 D (in), 7 E (in), 8 C (in), 9 B (in), 10 CC_DIG1 (in)

## HDSM-541B
designator *  value HDSM-541B
ki_keywords: display LED 7-segment; ki_description: Double 7 segment Blue LED common anode SMD mount; ki_fp_filters: HDSM?441B?HDSM?443B*; Footprint: Display:HDSM-441B_HDSM-443B; Supplier: https://docs.broadcom.com/docs/AV02-1588EN
footprint HDSM-441B_HDSM-443B
pins: 1 G (in), 2 DP (in), 3 A (in), 4 F (in), 5 CA_DIG2 (in), 6 D (in), 7 E (in), 8 C (in), 9 B (in), 10 CA_DIG1 (in)

## HDSM-543B
designator *  value HDSM-543B
ki_keywords: display LED 7-segment; ki_description: Double 7 segment Blue LED common cathode SMD mount; ki_fp_filters: HDSM?541B?HDSM?543B*; Footprint: Display:HDSM-541B_HDSM-543B; Supplier: https://docs.broadcom.com/docs/AV02-1588EN
footprint HDSM-541B_HDSM-543B
pins: 1 G (in), 2 DP (in), 3 A (in), 4 F (in), 5 CC_DIG2 (in), 6 D (in), 7 E (in), 8 C (in), 9 B (in), 10 CC_DIG1 (in)

## HDSP-7401
designator *  value HDSP-7401
ki_keywords: display LED 7-segment; ki_description: One digit 7 segment yellow, common anode; ki_fp_filters: HDSP?7401*; Footprint: Display_7Segment:HDSP-7401; Supplier: https://docs.broadcom.com/docs/AV02-2553EN
footprint HDSP-7401
pins: 1 CA (in), 2 F (in), 3 G (in), 4 E (in), 5 D (in), 6 CA (in), 7 DP (in), 8 C (in), 9 B (in), 10 A (in)

## HDSP-7403
designator *  value HDSP-7403
ki_keywords: display LED 7-segment; ki_description: One digit 7 segment yellow, common cathode; ki_fp_filters: HDSP?7401*; Footprint: Display_7Segment:HDSP-7401; Supplier: https://docs.broadcom.com/docs/AV02-2553EN
footprint HDSP-7401
pins: 1 CC (in), 2 F (in), 3 G (in), 4 E (in), 5 D (in), 6 CC (in), 7 DP (in), 8 C (in), 9 B (in), 10 A (in)

## HDSP-7501
designator *  value HDSP-7501
ki_keywords: display LED 7-segment; ki_description: One digit 7 segment high efficiency red, common anode; ki_fp_filters: HDSP?A151*; Footprint: Display_7Segment:HDSP-A151; Supplier: https://docs.broadcom.com/docs/AV02-2553EN
footprint HDSP-A151
pins: 1 CA (in), 2 F (in), 3 G (in), 4 E (in), 5 D (in), 6 CA (in), 7 DP (in), 8 C (in), 9 B (in), 10 A (in)

## HDSP-7503
designator *  value HDSP-7503
ki_keywords: display LED 7-segment; ki_description: One digit 7 segment high efficiency red, common cathode; ki_fp_filters: HDSP?A151*; Footprint: Display_7Segment:HDSP-A151; Supplier: https://docs.broadcom.com/docs/AV02-2553EN
footprint HDSP-A151
pins: 1 CC (in), 2 F (in), 3 G (in), 4 E (in), 5 D (in), 6 CC (in), 7 DP (in), 8 C (in), 9 B (in), 10 A (in)

## HDSP-7507
designator *  value HDSP-7507
ki_keywords: display LED 7-segment; ki_description: +-1 overflow 7 segment high efficiency red, common anode; ki_fp_filters: HDSP?7507*; Footprint: Display_7Segment:HDSP-7507; Supplier: https://docs.broadcom.com/docs/AV02-2553EN
footprint HDSP-7507
pins: 1 CA (in), 2 P (in), 3 M (in), 4 NC (in) hidden, 5 NC (in) hidden, 6 CA (in), 7 DP (in), 8 C (in), 9 B (in), 10 NC (in) hidden

## HDSP-7508
designator *  value HDSP-7508
ki_keywords: display LED 7-segment; ki_description: +-1 overflow 7 segment high efficiency red, common cathode; ki_fp_filters: HDSP?7507*; Footprint: Display_7Segment:HDSP-7507; Supplier: https://docs.broadcom.com/docs/AV02-2553EN
footprint HDSP-7507
pins: 1 CC (in), 2 P (in), 3 M (in), 4 NC (in) hidden, 5 NC (in) hidden, 6 CC (in), 7 DP (in), 8 C (in), 9 B (in), 10 NC (in) hidden

## HDSP-7801
designator *  value HDSP-7801
ki_keywords: display LED 7-segment; ki_description: One digit 7 segment green, common anode; ki_fp_filters: HDSP?7801*; Footprint: Display_7Segment:HDSP-7801; Supplier: https://docs.broadcom.com/docs/AV02-2553EN
footprint HDSP-7801
pins: 1 CA (in), 2 F (in), 3 G (in), 4 E (in), 5 D (in), 6 CA (in), 7 DP (in), 8 C (in), 9 B (in), 10 A (in)

## HDSP-7803
designator *  value HDSP-7803
ki_keywords: display LED 7-segment; ki_description: One digit 7 segment green, common cathode; ki_fp_filters: HDSP?7801*; Footprint: Display_7Segment:HDSP-7801; Supplier: https://docs.broadcom.com/docs/AV02-2553EN
footprint HDSP-7801
pins: 1 CC (in), 2 F (in), 3 G (in), 4 E (in), 5 D (in), 6 CC (in), 7 DP (in), 8 C (in), 9 B (in), 10 A (in)

## HDSP-7807
designator *  value HDSP-7807
ki_keywords: display LED 7-segment; ki_description: +-1 overflow 7 segment green, common anode; ki_fp_filters: HDSP?7807*; Footprint: Display_7Segment:HDSP-7807; Supplier: https://docs.broadcom.com/docs/AV02-2553EN
footprint HDSP-7807
pins: 1 CA (in), 2 P (in), 3 M (in), 4 NC (in) hidden, 5 NC (in) hidden, 6 CA (in), 7 DP (in), 8 C (in), 9 B (in), 10 NC (in) hidden

## HDSP-7808
designator *  value HDSP-7808
ki_keywords: display LED 7-segment; ki_description: +-1 overflow 7 segment green, common cathode; ki_fp_filters: HDSP?7807*; Footprint: Display_7Segment:HDSP-7807; Supplier: https://docs.broadcom.com/docs/AV02-2553EN
footprint HDSP-7807
pins: 1 CC (in), 2 P (in), 3 M (in), 4 NC (in) hidden, 5 NC (in) hidden, 6 CC (in), 7 DP (in), 8 C (in), 9 B (in), 10 NC (in) hidden

## HDSP-A151
designator *  value HDSP-A151
ki_keywords: display LED 7-segment; ki_description: One digit 7 segment red, common anode; ki_fp_filters: HDSP?A151*; Footprint: Display_7Segment:HDSP-A151; Supplier: https://docs.broadcom.com/docs/AV02-2553EN
footprint HDSP-A151
pins: 1 CA (in), 2 F (in), 3 G (in), 4 E (in), 5 D (in), 6 CA (in), 7 DP (in), 8 C (in), 9 B (in), 10 A (in)

## HDSP-A153
designator *  value HDSP-A153
ki_keywords: display LED 7-segment; ki_description: One digit 7 segment red, common cathode; ki_fp_filters: HDSP?A151*; Footprint: Display_7Segment:HDSP-A151; Supplier: https://docs.broadcom.com/docs/AV02-2553EN
footprint HDSP-A151
pins: 1 CC (in), 2 F (in), 3 G (in), 4 E (in), 5 D (in), 6 CC (in), 7 DP (in), 8 C (in), 9 B (in), 10 A (in)

## HDSP-A401
designator *  value HDSP-A401
ki_keywords: display LED 7-segment; ki_description: One digit 7 segment orange, common anode; ki_fp_filters: HDSP?A401*; Footprint: Display_7Segment:HDSP-A401; Supplier: https://docs.broadcom.com/docs/AV02-2553EN
footprint HDSP-A401
pins: 1 CA (in), 2 F (in), 3 G (in), 4 E (in), 5 D (in), 6 CA (in), 7 DP (in), 8 C (in), 9 B (in), 10 A (in)

## HDSP-A403
designator *  value HDSP-A403
ki_keywords: display LED 7-segment; ki_description: One digit 7 segment orange, common cathode; ki_fp_filters: HDSP?A401*; Footprint: Display_7Segment:HDSP-A401; Supplier: https://docs.broadcom.com/docs/AV02-2553EN
footprint HDSP-A401
pins: 1 CC (in), 2 F (in), 3 G (in), 4 E (in), 5 D (in), 6 CC (in), 7 DP (in), 8 C (in), 9 B (in), 10 A (in)

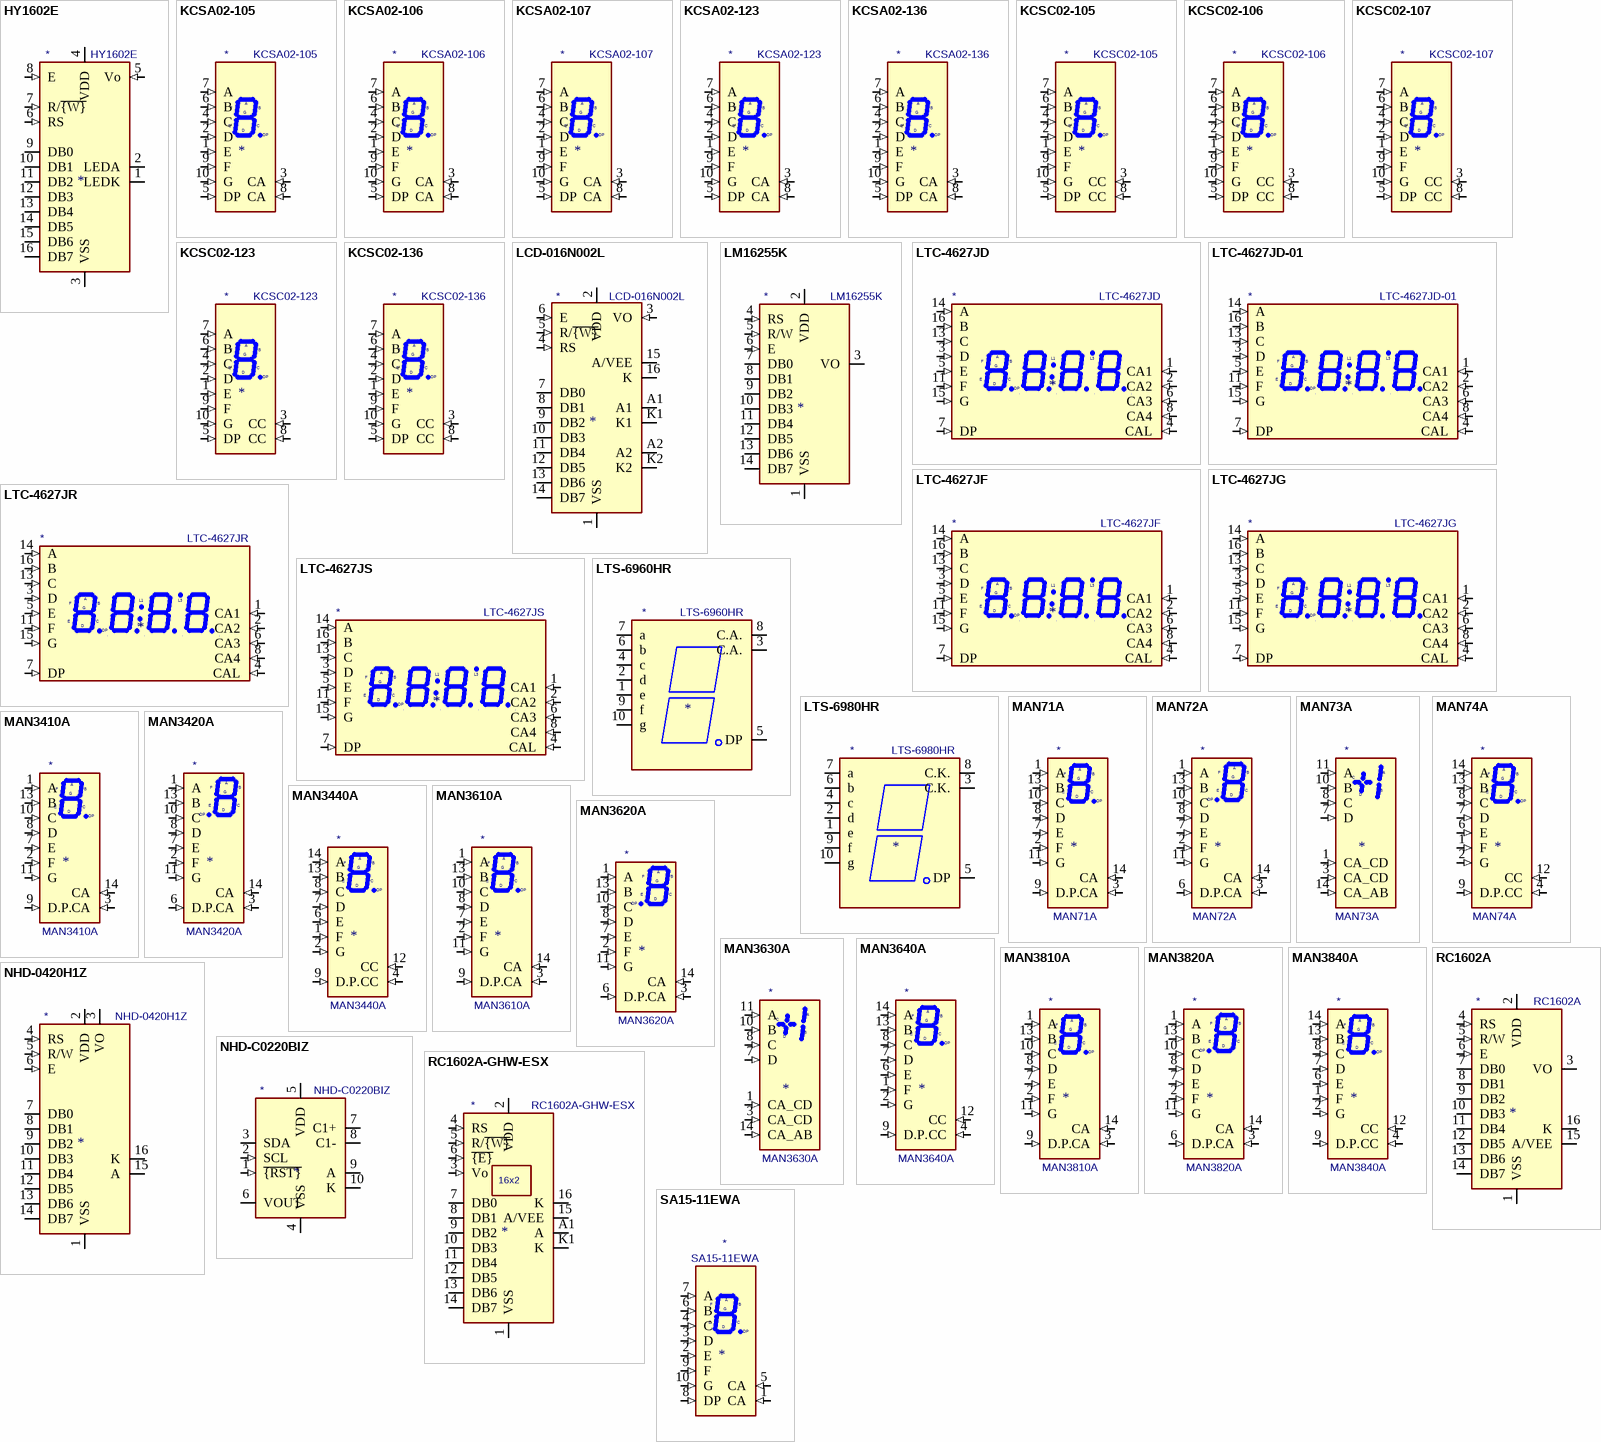
[diagram p2: symbols HY1602E to SA15-11EWA]

## HY1602E
designator *  value HY1602E
ki_keywords: display LCD 7-segment; ki_description: LCD 16x2 Alphanumeric 16pin Blue/Yellow/Green Backlight, 8bit parallel, 5V VDD; ki_fp_filters: *HY1602E*; Footprint: Display:HY1602E; Supplier: http://www.icbank.com/data/ICBShop/board/HY1602E.pdf
footprint HY1602E
pins: 1 LEDK, 2 LEDA, 3 VSS (power), 4 VDD (power), 5 Vo (in), 6 RS (in), 7 R/~{{W}} (in), 8 E (in), 9 DB0 (io), 10 DB1 (io), 11 DB2 (io), 12 DB3 (io), 13 DB4 (io), 14 DB5 (io), 15 DB6 (io), 16 DB7 (io)

## KCSA02-105
designator *  value KCSA02-105
ki_keywords: display LED 7-segment; ki_description: One digit 7 segment hyper red LED, common anode; ki_fp_filters: *KCSC02*105*; Footprint: Display_7Segment:KCSC02-105; Supplier: http://www.kingbright.com/attachments/file/psearch/000/00/00/KCSA02-105(Ver.10A).pdf
footprint KCSC02-105
pins: 1 E (in), 2 D (in), 3 CA (in), 4 C (in), 5 DP (in), 6 B (in), 7 A (in), 8 CA (in), 9 F (in), 10 G (in)

## KCSA02-106
designator *  value KCSA02-106
ki_keywords: display LED 7-segment; ki_description: One digit 7 segment super bright orange LED, common anode; ki_fp_filters: KCSC02?106*; Footprint: Display_7Segment:KCSC02-106; Supplier: http://www.kingbright.com/attachments/file/psearch/000/00/00/KCSA02-106(Ver.11A).pdf
footprint KCSC02-106
pins: 1 E (in), 2 D (in), 3 CA (in), 4 C (in), 5 DP (in), 6 B (in), 7 A (in), 8 CA (in), 9 F (in), 10 G (in)

## KCSA02-107
designator *  value KCSA02-107
ki_keywords: display LED 7-segment; ki_description: One digit 7 segment super bright orange LED, common anode; ki_fp_filters: KCSC02?107*; Footprint: Display_7Segment:KCSC02-107; Supplier: http://www.kingbright.com/attachments/file/psearch/000/00/00/KCSA02-107(Ver.10A).pdf
footprint KCSC02-107
pins: 1 E (in), 2 D (in), 3 CA (in), 4 C (in), 5 DP (in), 6 B (in), 7 A (in), 8 CA (in), 9 F (in), 10 G (in)

## KCSA02-123
designator *  value KCSA02-123
ki_keywords: display LED 7-segment; ki_description: One digit 7 segment green LED, common anode; ki_fp_filters: KCSC02?123*; Footprint: Display_7Segment:KCSC02-123; Supplier: http://www.kingbright.com/attachments/file/psearch/000/00/00/KCSA02-123(Ver.9A).pdf
footprint KCSC02-123
pins: 1 E (in), 2 D (in), 3 CA (in), 4 C (in), 5 DP (in), 6 B (in), 7 A (in), 8 CA (in), 9 F (in), 10 G (in)

## KCSA02-136
designator *  value KCSA02-136
ki_keywords: display LED 7-segment; ki_description: One digit 7 segment blue LED, common anode; ki_fp_filters: KCSC02?136*; Footprint: Display_7Segment:KCSC02-136; Supplier: http://www.kingbright.com/attachments/file/psearch/000/00/00/KCSA02-136(Ver.7B).pdf
footprint KCSC02-136
pins: 1 E (in), 2 D (in), 3 CA (in), 4 C (in), 5 DP (in), 6 B (in), 7 A (in), 8 CA (in), 9 F (in), 10 G (in)

## KCSC02-105
designator *  value KCSC02-105
ki_keywords: display LED 7-segment; ki_description: One digit 7 segment hyper red LED, common cathode; ki_fp_filters: *KCSC02*105*; Footprint: Display_7Segment:KCSC02-105; Supplier: http://www.kingbright.com/attachments/file/psearch/000/00/00/KCSC02-105(Ver.9A).pdf
footprint KCSC02-105
pins: 1 E (in), 2 D (in), 3 CC (in), 4 C (in), 5 DP (in), 6 B (in), 7 A (in), 8 CC (in), 9 F (in), 10 G (in)

## KCSC02-106
designator *  value KCSC02-106
ki_keywords: display LED 7-segment; ki_description: One digit 7 segment super bright orange LED, common cathode; ki_fp_filters: KCSC02?106*; Footprint: Display_7Segment:KCSC02-106; Supplier: http://www.kingbright.com/attachments/file/psearch/000/00/00/KCSC02-106(Ver.10A).pdf
footprint KCSC02-106
pins: 1 E (in), 2 D (in), 3 CC (in), 4 C (in), 5 DP (in), 6 B (in), 7 A (in), 8 CC (in), 9 F (in), 10 G (in)

## KCSC02-107
designator *  value KCSC02-107
ki_keywords: display LED 7-segment; ki_description: One digit 7 segment super bright orange LED, common cathode; ki_fp_filters: KCSC02?107*; Footprint: Display_7Segment:KCSC02-107; Supplier: http://www.kingbright.com/attachments/file/psearch/000/00/00/KCSC02-106(Ver.10A).pdf
footprint KCSC02-107
pins: 1 E (in), 2 D (in), 3 CC (in), 4 C (in), 5 DP (in), 6 B (in), 7 A (in), 8 CC (in), 9 F (in), 10 G (in)

## KCSC02-123
designator *  value KCSC02-123
ki_keywords: display LED 7-segment; ki_description: One digit 7 segment green LED, common cathode; ki_fp_filters: KCSC02?123*; Footprint: Display_7Segment:KCSC02-123; Supplier: http://www.kingbright.com/attachments/file/psearch/000/00/00/KCSC02-123(Ver.10A).pdf
footprint KCSC02-123
pins: 1 E (in), 2 D (in), 3 CC (in), 4 C (in), 5 DP (in), 6 B (in), 7 A (in), 8 CC (in), 9 F (in), 10 G (in)

## KCSC02-136
designator *  value KCSC02-136
ki_keywords: display LED 7-segment; ki_description: One digit 7 segment blue LED, common cathode; ki_fp_filters: KCSC02?136*; Footprint: Display_7Segment:KCSC02-136; Supplier: http://www.kingbright.com/attachments/file/psearch/000/00/00/KCSC02-136(Ver.6B).pdf
footprint KCSC02-136
pins: 1 E (in), 2 D (in), 3 CC (in), 4 C (in), 5 DP (in), 6 B (in), 7 A (in), 8 CC (in), 9 F (in), 10 G (in)

## LCD-016N002L
designator *  value LCD-016N002L
ki_keywords: display LCD dot-matrix; ki_description: LCD 12x2, 8 bit parallel bus, 3V or 5V VDD; ki_fp_filters: *LCD*016N002L*; Footprint: Display:LCD-016N002L; Supplier: http://www.vishay.com/docs/37299/37299.pdf
footprint LCD-016N002L
pins: 1 VSS (power), 2 VDD (power), 3 VO (in), 4 RS (in), 5 R/~{{W}} (in), 6 E (in), 7 DB0 (io), 8 DB1 (io), 9 DB2 (io), 10 DB3 (io), 11 DB4 (io), 12 DB5 (io), 13 DB6 (io), 14 DB7 (io), 15 A/VEE (power), 16 K (power), A1 (power), A2 (power), K1 (power), K2 (power)

## LM16255K
designator *  value LM16255K
ki_keywords: display LCD dot-matrix; ki_description: 2 Lines, 12 character reflective LCD; ki_fp_filters: *LM16255*; Footprint: Display:LM16255; Supplier: http://pdf.datasheetcatalog.com/datasheet/Sharp/mXvtrzw.pdf
footprint LM16255
pins: 1 VSS (power), 2 VDD (power), 3 VO (power), 4 RS (in), 5 R/W (in), 6 E (in), 7 DB0 (io), 8 DB1 (io), 9 DB2 (io), 10 DB3 (io), 11 DB4 (io), 12 DB5 (io), 13 DB6 (io), 14 DB7 (io)

## LTC-4627JD
designator *  value LTC-4627JD
ki_keywords: display LED 7-segment; ki_description: 4 digit 7 segment hyper red, common anode; ki_fp_filters: LTC?4627J*; Footprint: Display_7Segment:LTC-4627Jx; Supplier: http://optoelectronics.liteon.com/upload/download/DS30-2001-093/LTC-4627JD.pdf
footprint LTC-4627Jx
pins: 1 CA1 (in), 2 CA2 (in), 3 D (in), 4 CAL (in), 5 E (in), 6 CA3 (in), 7 DP (in), 8 CA4 (in), 9 NC (in) hidden, 11 F (in), 13 C (in), 14 A (in), 15 G (in), 16 B (in)
text: L1; L3; L2

## LTC-4627JD-01
designator *  value LTC-4627JD-01
ki_keywords: display LED 7-segment; ki_description: 4 digit 7 segment hyper red, common anode; ki_fp_filters: LTC?4627J*; Footprint: Display_7Segment:LTC-4627Jx; Supplier: http://optoelectronics.liteon.com/upload/download/DS30-2008-0116/LTC-4627JD-01.pdf
footprint LTC-4627Jx
pins: 1 CA1 (in), 2 CA2 (in), 3 D (in), 4 CAL (in), 5 E (in), 6 CA3 (in), 7 DP (in), 8 CA4 (in), 9 NC (in) hidden, 11 F (in), 13 C (in), 14 A (in), 15 G (in), 16 B (in)
text: L1; L3; L2

## LTC-4627JF
designator *  value LTC-4627JF
ki_keywords: display LED 7-segment; ki_description: 4 digit 7 segment yellow orange, common anode; ki_fp_filters: LTC?4627J*; Footprint: Display_7Segment:LTC-4627Jx; Supplier: http://optoelectronics.liteon.com/upload/download/DS30-2000-192/C4627JF.pdf
footprint LTC-4627Jx
pins: 1 CA1 (in), 2 CA2 (in), 3 D (in), 4 CAL (in), 5 E (in), 6 CA3 (in), 7 DP (in), 8 CA4 (in), 9 NC (in) hidden, 11 F (in), 13 C (in), 14 A (in), 15 G (in), 16 B (in)
text: L1; L3; L2

## LTC-4627JG
designator *  value LTC-4627JG
ki_keywords: display LED 7-segment; ki_description: 4 digit 7 segment green, common anode; ki_fp_filters: LTC?4627J*; Footprint: Display_7Segment:LTC-4627Jx; Supplier: http://optoelectronics.liteon.com/upload/download/DS30-2001-393/C4627JG.pdf
footprint LTC-4627Jx
pins: 1 CA1 (in), 2 CA2 (in), 3 D (in), 4 CAL (in), 5 E (in), 6 CA3 (in), 7 DP (in), 8 CA4 (in), 9 NC (in) hidden, 11 F (in), 13 C (in), 14 A (in), 15 G (in), 16 B (in)
text: L1; L3; L2

## LTC-4627JR
designator *  value LTC-4627JR
ki_keywords: display LED 7-segment; ki_description: 4 digit 7 segment super red, common anode; ki_fp_filters: LTC?4627J*; Footprint: Display_7Segment:LTC-4627Jx; Supplier: http://optoelectronics.liteon.com/upload/download/DS30-2000-185/LTC-4627JR.pdf
footprint LTC-4627Jx
pins: 1 CA1 (in), 2 CA2 (in), 3 D (in), 4 CAL (in), 5 E (in), 6 CA3 (in), 7 DP (in), 8 CA4 (in), 9 NC (in) hidden, 11 F (in), 13 C (in), 14 A (in), 15 G (in), 16 B (in)
text: L1; L3; L2

## LTC-4627JS
designator *  value LTC-4627JS
ki_keywords: display LED 7-segment; ki_description: 4 digit 7 segment yellow, common anode; ki_fp_filters: LTC?4627J*; Footprint: Display_7Segment:LTC-4627Jx; Supplier: http://optoelectronics.liteon.com/upload/download/DS30-2000-186/LTC-4627JS.pdf
footprint LTC-4627Jx
pins: 1 CA1 (in), 2 CA2 (in), 3 D (in), 4 CAL (in), 5 E (in), 6 CA3 (in), 7 DP (in), 8 CA4 (in), 9 NC (in) hidden, 11 F (in), 13 C (in), 14 A (in), 15 G (in), 16 B (in)
text: L1; L3; L2

## LTS-6960HR
designator *  value LTS-6960HR
ki_keywords: display LED 7-segment; ki_description: DISPLAY 7 SEGMENTS common A.; ki_fp_filters: 7SegmentLED?LTS6760?LTS6780*; Footprint: Display_7Segment:7SegmentLED_LTS6760_LTS6780; Supplier: https://datasheet.octopart.com/LTS-6960HR-Lite-On-datasheet-11803242.pdf
footprint 7SegmentLED_LTS6760_LTS6780
pins: 1 e, 2 d, 3 C.A., 4 c, 5 DP, 6 b, 7 a, 8 C.A., 9 f, 10 g

## LTS-6980HR
designator *  value LTS-6980HR
ki_keywords: display LED 7-segment; ki_description: DISPLAY 7 SEGMENTS common K, high efficient red; ki_fp_filters: 7SegmentLED?LTS6760?LTS6780*; Footprint: Display_7Segment:7SegmentLED_LTS6760_LTS6780; Supplier: http://datasheet.octopart.com/LTS-6960HR-Lite-On-datasheet-11803242.pdf
footprint 7SegmentLED_LTS6760_LTS6780
pins: 1 e, 2 d, 3 C.K., 4 c, 5 DP, 6 b, 7 a, 8 C.K., 9 f, 10 g

## MAN71A
designator *  value MAN71A
ki_keywords: display LED 7-segment; ki_description: Single digit 7 segment red LED common anode right hand decimal; ki_fp_filters: *MAN71A*; Footprint: Display_7Segment:MAN71A; Supplier: https://www.digchip.com/datasheets/parts/datasheet/161/MAN3640A-pdf.php
footprint MAN71A
pins: 1 A (in), 2 F (in), 3 CA (in), 4 NC (in) hidden, 5 NC (in) hidden, 6 NC (in) hidden, 7 E (in), 8 D (in), 9 D.P. (in), 10 C (in), 11 G (in), 12 NC (in) hidden, 13 B (in), 14 CA (in)
text: DP

## MAN72A
designator *  value MAN72A
ki_keywords: display LED 7-segment; ki_description: Single digit 7 segment red LED common anode left hand decimal; ki_fp_filters: MAN72A*; Footprint: Display_7Segment:MAN72A; Supplier: https://www.digchip.com/datasheets/parts/datasheet/161/MAN3640A-pdf.php
footprint MAN72A
pins: 1 A (in), 2 F (in), 3 CA (in), 4 NC (in) hidden, 5 NC (in) hidden, 6 D.P. (in), 7 E (in), 8 D (in), 9 NC (in) hidden, 10 C (in), 11 G (in), 12 NC (in) hidden, 13 B (in), 14 CA (in)
text: DP

## MAN73A
designator *  value MAN73A
ki_keywords: display LED 7-segment; ki_description: Overflow 7 segment red LED common anode; ki_fp_filters: *MAN73A*; Footprint: Display_7Segment:MAN73A; Supplier: https://www.digchip.com/datasheets/parts/datasheet/161/MAN3640A-pdf.php
footprint MAN73A
pins: 1 CA_CD (in), 2 NC (in) hidden, 3 CA_CD (in), 4 NC (in) hidden, 5 NC (in) hidden, 6 NC (in) hidden, 7 D (in), 8 C (in), 9 NC (in) hidden, 10 B (in), 11 A (in), 12 NC (in) hidden, 13 NC (in) hidden, 14 CA_AB (in)

## MAN74A
designator *  value MAN74A
ki_keywords: display LED 7-segment; ki_description: Single digit 7 segment red LED common anode right hand decimal; ki_fp_filters: MAN71A*; Footprint: Display_7Segment:MAN71A; Supplier: https://www.digchip.com/datasheets/parts/datasheet/161/MAN3640A-pdf.php
footprint MAN71A
pins: 1 F (in), 2 G (in), 3 NC (in) hidden, 4 CC (in), 5 NC (in) hidden, 6 E (in), 7 D (in), 8 C (in), 9 D.P. (in), 10 NC (in) hidden, 11 NC (in) hidden, 12 CC (in), 13 B (in), 14 A (in)
text: DP

## MAN3410A
designator *  value MAN3410A
ki_keywords: display LED 7-segment; ki_description: Single digit 7 segment high efficient green LED common anode right hand decimal; ki_fp_filters: *MAN3410A*; Footprint: Display_7Segment:MAN3410A; Supplier: https://www.digchip.com/datasheets/parts/datasheet/161/MAN3640A-pdf.php
footprint MAN3410A
pins: 1 A (in), 2 F (in), 3 CA (in), 4 NC (in) hidden, 5 NC (in) hidden, 6 NC (in) hidden, 7 E (in), 8 D (in), 9 D.P. (in), 10 C (in), 11 G (in), 12 NC (in) hidden, 13 B (in), 14 CA (in)
text: DP

## MAN3420A
designator *  value MAN3420A
ki_keywords: display LED 7-segment; ki_description: Single digit 7 segment high efficient green LED common anode left hand decimal; ki_fp_filters: *MAN3420A*; Footprint: Display_7Segment:MAN3420A; Supplier: https://www.digchip.com/datasheets/parts/datasheet/161/MAN3640A-pdf.php
footprint MAN3420A
pins: 1 A (in), 2 F (in), 3 CA (in), 4 NC (in) hidden, 5 NC (in) hidden, 6 D.P. (in), 7 E (in), 8 D (in), 9 NC (in) hidden, 10 C (in), 11 G (in), 12 NC (in) hidden, 13 B (in), 14 CA (in)
text: DP

## MAN3440A
designator *  value MAN3440A
ki_keywords: display LED 7-segment; ki_description: Single digit 7 segment high efficient green LED common anode right hand decimal; ki_fp_filters: MAN3410A*; Footprint: Display_7Segment:MAN3410A; Supplier: https://www.digchip.com/datasheets/parts/datasheet/161/MAN3640A-pdf.php
footprint MAN3410A
pins: 1 F (in), 2 G (in), 3 NC (in) hidden, 4 CC (in), 5 NC (in) hidden, 6 E (in), 7 D (in), 8 C (in), 9 D.P. (in), 10 NC (in) hidden, 11 NC (in) hidden, 12 CC (in), 13 B (in), 14 A (in)
text: DP

## MAN3610A
designator *  value MAN3610A
ki_keywords: display LED 7-segment; ki_description: Single digit 7 segment orange LED common anode right hand decimal; ki_fp_filters: *MAN3610A*; Footprint: Display_7Segment:MAN3610A; Supplier: https://www.digchip.com/datasheets/parts/datasheet/161/MAN3640A-pdf.php
footprint MAN3610A
pins: 1 A (in), 2 F (in), 3 CA (in), 4 NC (in) hidden, 5 NC (in) hidden, 6 NC (in) hidden, 7 E (in), 8 D (in), 9 D.P. (in), 10 C (in), 11 G (in), 12 NC (in) hidden, 13 B (in), 14 CA (in)
text: DP

## MAN3620A
designator *  value MAN3620A
ki_keywords: display LED 7-segment; ki_description: Single digit 7 segment orange LED common anode left hand decimal; ki_fp_filters: *MAN3620A*; Footprint: Display_7Segment:MAN3620A; Supplier: https://www.digchip.com/datasheets/parts/datasheet/161/MAN3640A-pdf.php
footprint MAN3620A
pins: 1 A (in), 2 F (in), 3 CA (in), 4 NC (in) hidden, 5 NC (in) hidden, 6 D.P. (in), 7 E (in), 8 D (in), 9 NC (in) hidden, 10 C (in), 11 G (in), 12 NC (in) hidden, 13 B (in), 14 CA (in)
text: DP

## MAN3630A
designator *  value MAN3630A
ki_keywords: display LED 7-segment; ki_description: Overflow 7 segment orange LED common anode; ki_fp_filters: *MAN3630A*; Footprint: Display_7Segment:MAN3630A; Supplier: https://www.digchip.com/datasheets/parts/datasheet/161/MAN3640A-pdf.php
footprint MAN3630A
pins: 1 CA_CD (in), 2 NC (in) hidden, 3 CA_CD (in), 4 NC (in) hidden, 5 NC (in) hidden, 6 NC (in) hidden, 7 D (in), 8 C (in), 9 NC (in) hidden, 10 B (in), 11 A (in), 12 NC (in) hidden, 13 NC (in) hidden, 14 CA_AB (in)